# EAGLE library part EBM001 (library Jim_RF_Retired)
Bluetooth module
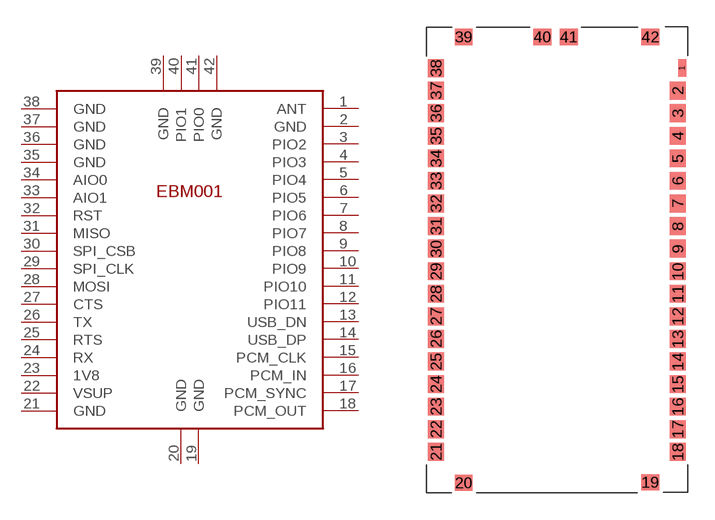
[diagram p4: symbol with the pads of EMB001; footprint EMB001]

Designator prefix -

## EBM001  [EMB001]
1  ANT
2  GND
3  PIO2
4  PIO3
5  PIO4
6  PIO5
7  PIO6
8  PIO7
9  PIO8
10  PIO9
11  PIO10
12  PIO11
13  USB_DN
14  USB_DP
15  PCM_CLK
16  PCM_IN
17  PCM_SYNC
18  PCM_OUT
19  GND
20  GND
21  GND
22  VSUP
23  1V8
24  RX
25  RTS
26  TX
27  CTS
28  MOSI
29  SPI_CLK
30  SPI_CSB
31  MISO
32  RST
33  AIO1
34  AIO0
35  GND
36  GND
37  GND
38  GND
39  GND
40  PIO1
41  PIO0
42  GND

## Footprint EMB001 (pad centres in mm)
smd 0.45 x 1: 1 13.83,0.01
smd 0.9 x 1: 2 13.6,-1.27; 3 13.6,-2.54; 4 13.6,-3.81; 5 13.6,-5.08; 6 13.6,-6.35; 7 13.6,-7.62; 8 13.6,-8.89; 9 13.6,-10.16; 10 13.6,-11.43; 11 13.6,-12.7; 12 13.6,-13.97; 13 13.6,-15.24; 14 13.6,-16.51; 15 13.6,-17.78; 16 13.6,-19.05; 17 13.6,-20.32; 18 13.6,-21.59; 21 0,-21.59; 22 0,-20.32; 23 0,-19.05; 24 0,-17.78; 25 0,-16.51; 26 0,-15.24; 27 0,-13.97; 28 0,-12.7; 29 0,-11.43; 30 0,-10.16; 31 0,-8.89; 32 0,-7.62; 33 0,-6.35; 34 0,-5.08; 35 0,-3.81; 36 0,-2.54; 37 0,-1.27; 38 0,0
smd 1 x 0.9: 19 12.05,-23.31; 20 1.55,-23.34; 39 1.55,1.75; 40 5.98,1.75; 41 7.46,1.75; 42 12.05,1.75